# EAGLE library part MOLEX-CF-ADAPTOR (library mp3)
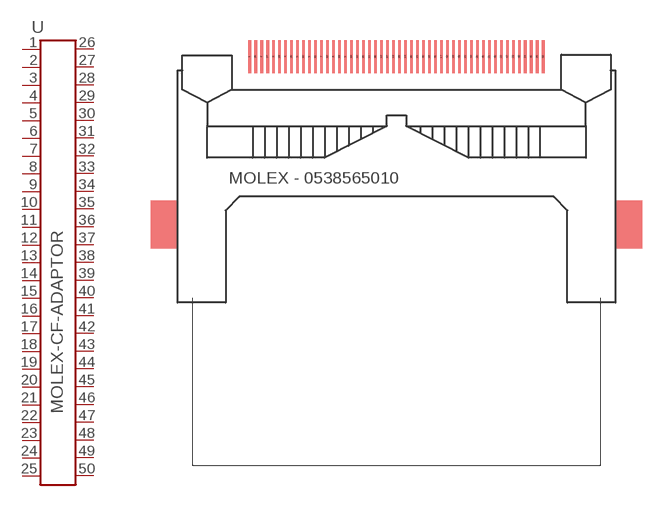
[diagram p3: symbol with the pads of COMPACTFLASH; footprint COMPACTFLASH]

Designator prefix -

## MOLEX-CF-ADAPTOR50P  [COMPACTFLASH]
1  1  pas
2  2  pas
3  3  pas
4  4  pas
5  5  pas
6  6  pas
7  7  pas
8  8  pas
9  9  pas
10  10  pas
11  11  pas
12  12  pas
13  13  pas
14  14  pas
15  15  pas
16  16  pas
17  17  pas
18  18  pas
19  19  pas
20  20  pas
21  21  pas
22  22  pas
23  23  pas
24  24  pas
25  25  pas
26  26  pas
27  27  pas
28  28  pas
29  29  pas
30  30  pas
31  31  pas
32  32  pas
33  33  pas
34  34  pas
35  35  pas
36  36  pas
37  37  pas
38  38  pas
39  39  pas
40  40  pas
41  41  pas
42  42  pas
43  43  pas
44  44  pas
45  45  pas
46  46  pas
47  47  pas
48  48  pas
49  49  pas
50  50  pas

## Footprint COMPACTFLASH (pad centres in mm)
smd 0.3 x 3.5: 1 -16.828,10.335; 2 -15.557,10.335; 3 -14.287,10.335; 4 -13.018,10.335; 5 -11.748,10.335; 6 -10.477,10.335; 7 -9.207,10.335; 8 -7.938,10.335; 9 -6.668,10.335; 10 -5.397,10.335; 11 -4.128,10.335; 12 -2.857,10.335; 13 -1.587,10.335; 14 -0.318,10.335; 15 0.953,10.335; 16 2.223,10.335; 17 3.493,10.335; 18 4.763,10.335; 19 6.032,10.335; 20 7.303,10.335; 21 8.572,10.335; 22 9.842,10.335; 23 11.113,10.335; 24 12.383,10.335; 25 13.652,10.335; 26 -16.192,10.335; 27 -14.922,10.335; 28 -13.652,10.335; 29 -12.383,10.335; 30 -11.113,10.335; 31 -9.842,10.335; 32 -8.572,10.335; 33 -7.303,10.335; 34 -6.032,10.335; 35 -4.763,10.335; 36 -3.493,10.335; 37 -2.223,10.335; 38 -0.953,10.335; 39 0.318,10.335; 40 1.587,10.335; 41 2.857,10.335; 42 4.128,10.335; 43 5.397,10.335; 44 6.668,10.335; 45 7.938,10.335; 46 9.207,10.335; 47 10.477,10.335; 48 11.748,10.335; 49 13.018,10.335; 50 14.287,10.335